# EAGLE library part MFRC522 (library SeniorDesignParts)
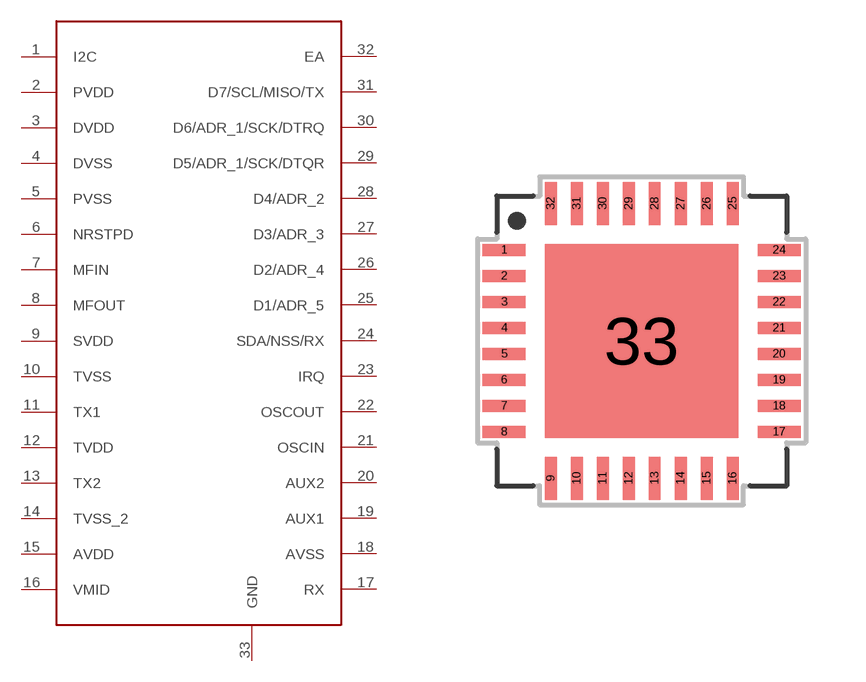
[diagram p1: symbol with the pads of HVQFN32; footprint HVQFN32]

Designator prefix -

## MFRC522  [HVQFN32]
1  I2C
2  PVDD
3  DVDD
4  DVSS
5  PVSS
6  NRSTPD
7  MFIN
8  MFOUT
9  SVDD
10  TVSS
11  TX1
12  TVDD
13  TX2
14  TVSS_2
15  AVDD
16  VMID
17  RX
18  AVSS
19  AUX1
20  AUX2
21  OSCIN
22  OSCOUT
23  IRQ
24  SDA/NSS/RX
25  D1/ADR_5
26  D2/ADR_4
27  D3/ADR_3
28  D4/ADR_2
29  D5/ADR_1/SCK/DTQR
30  D6/ADR_1/SCK/DTRQ
31  D7/SCL/MISO/TX
32  EA
33  GND

## Footprint HVQFN32 (pad centres in mm)
smd 1.075 x 0.3: 1 -0.263,5.45; 2 -0.263,4.8; 3 -0.263,4.15; 4 -0.263,3.5; 5 -0.263,2.85; 6 -0.263,2.2; 7 -0.263,1.55; 8 -0.263,0.9; 17 6.612,0.9; 18 6.612,1.55; 19 6.612,2.2; 20 6.612,2.85; 21 6.612,3.5; 22 6.612,4.15; 23 6.612,4.8; 24 6.612,5.45
smd 0.3 x 1.075: 9 0.9,-0.263; 10 1.55,-0.263; 11 2.2,-0.263; 12 2.85,-0.263; 13 3.5,-0.263; 14 4.15,-0.263; 15 4.8,-0.263; 16 5.45,-0.263; 25 5.45,6.612; 26 4.8,6.612; 27 4.15,6.612; 28 3.5,6.612; 29 2.85,6.612; 30 2.2,6.612; 31 1.55,6.612; 32 0.9,6.612
smd 4.85 x 4.85: 33 3.175,3.175